# Altium footprint library pre_INDUCTOR.PcbLib: 9 footprints
Each footprint in its own frame and in the unit in brackets; x right, y up, seen from the top. Pads: shape width x height; smd on the part's side, far side on the other; paste and mask are expansions set on the pad; w line width, h text height; cw(c..) or ccw(c..) is an arc to the next point about the centre after c.
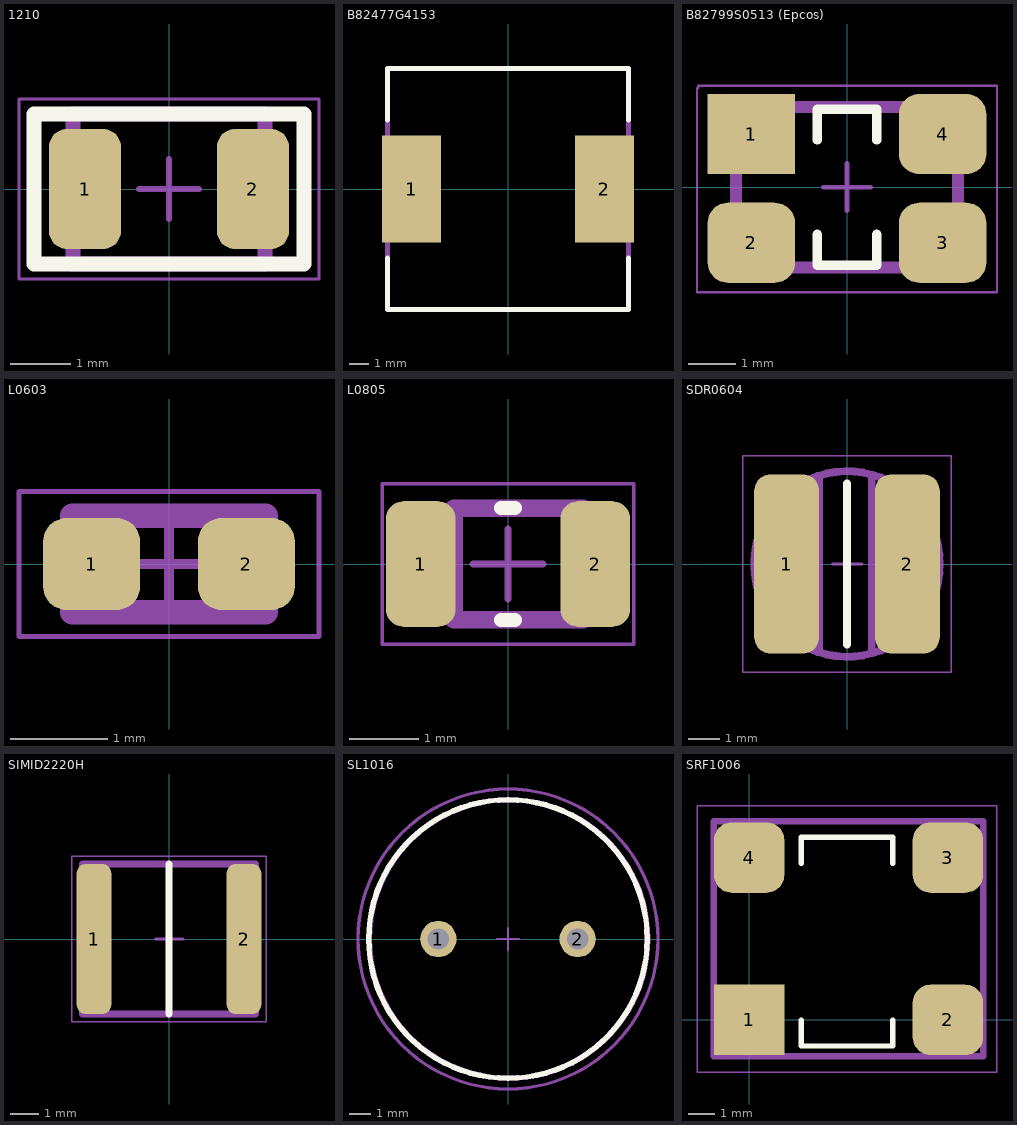
[diagram p0: the footprints below, top view; thin cyan lines are the x and y axes]

## 1210 [mm]
pads (2):
  rrect50% 1.2x2 smd: 1(-1.4,0) 2(1.4,0)
Top Overlay:
  lines w0.254: -2.25,-1.25 2.25,-1.25 2.25,1.25 -2.25,1.25 -2.25,-1.25
Top Assy:
  lines w0.254: -1.6,-1.25 1.6,-1.25 1.6,1.25 -1.6,1.25 -1.6,-1.25
Mechanical 13:
  lines w0.1: -1.6,-1.25 1.6,-1.25 1.6,1.25 -1.6,1.25 -1.6,-1.25
Mechanical 15:
  lines w0.05: -2.5,-1.5 2.5,-1.5 2.5,1.5 1.663,1.5 -1.512,1.5 -2.375,1.5 -2.5,1.5 -2.5,-1.5
  lines w0.1: -0.5,0 0.5,0 ; 0,-0.5 0,0.5
3D body: height 2.1, standoff 0, extent -1.6,-1.237 1.6,1.238

## B82477G4153 [mm]
pads (2):
  rect 3.1x5.6 smd: 1(-5.05,0) 2(5.05,0)
Top Overlay:
  lines w0.254: -6.3,-3.6 -6.3,-6.3 6.3,-6.3 6.3,-3.6 ; -6.3,3.6 -6.3,6.3 6.3,6.3 6.3,3.6
Top Assy:
  lines w0.254: -6.3,-6.3 -6.3,6.3 6.3,6.3 6.3,-6.3 -6.3,-6.3

## B82799S0513 (Epcos) [mm] "Inductor, 4-Leads"
height 3.2
pads (4):
  rect 1.85x1.7 smd: 1(-2.025,1.125)
  rrect50% 1.85x1.7 smd: 2(-2.025,-1.175) 3(2.025,-1.175) 4(2.025,1.125)
Top Overlay:
  lines w0.2: -0.625,-1 -0.625,-1.65 0.625,-1.65 0.625,-1 ; -0.625,1 -0.625,1.65 0.625,1.65 0.625,1
Top Assy:
  lines w0.254: -2.35,-1.7 2.35,-1.7 2.35,1.7 -2.35,1.7 -2.35,-1.7
Mechanical 13:
  lines w0.1: -2.35,-1.7 2.35,-1.7 2.35,1.7 -2.35,1.7 -2.35,-1.7
Mechanical 15:
  lines w0.05: -3.175,-2.225 3.175,-2.225 3.175,2.15 1.613,2.15 -1.562,2.15 -3.15,2.15 -3.15,2.1 -3.175,2.1 -3.175,-2.225
  lines w0.1: -0.5,0 0.5,0 ; 0,-0.5 0,0.5
3D body: height 3.2, standoff 0, extent -2.35,-1.65 2.35,1.75

## L0603 [mm] "Chip Inductor, 2-Leads, Body 1,60x0,80mm, IPC Medium Density"
height 0.87
pads (2):
  rrect50% 1x0.95 smd: 1(-0.8,0) 2(0.8,0)
Top Assy:
  lines w0.254: -1,-0.5 -1,0.5 1,0.5 1,-0.5 -1,-0.5
Mechanical 13:
  lines w0.1: -0.875,-0.475 0.875,-0.475 0.875,0.475 -0.875,0.475 -0.875,-0.475
Mechanical 15:
  lines w0.05: -1.55,-0.75 1.55,-0.75 1.55,0.75 -1.55,0.75 -1.55,-0.75
  lines w0.1: -0.475,0 0.475,0 ; 0,-0.475 0,0.475
3D body: height 0.87, standoff 0, extent 0.525,-0.475 0.875,0.475
3D body: height 0.87, standoff 0, extent -0.875,-0.475 -0.525,0.475
3D body: height 0.87, standoff 0, extent -0.525,-0.475 0.525,0.475

## L0805 [mm] "BF-SB201209 2.0x1.25x0.90"
height 1.1
pads (2):
  rrect50% 1x1.8 smd: 1(-1.25,0) 2(1.25,0)
Top Overlay:
  lines w0.2: -0.1,-0.8 0.1,-0.8 ; -0.1,0.8 0.1,0.8
Top Assy:
  lines w0.254: -0.775,-0.8 -0.775,0.8 1.075,0.8 1.075,-0.8 -0.775,-0.8
Mechanical 13:
  lines w0.1: -1.1,-0.725 -1.1,0.725 1.1,0.725 1.1,-0.725 -1.1,-0.725
Mechanical 15:
  lines w0.05: -1.8,-1.15 -1.8,1.15 1.8,1.15 1.8,-1.15 -1.8,-1.15
  lines w0.1: -0.5,0 0.5,0 ; 0,-0.5 0,0.5
3D body: height 1.1, standoff 0, extent 0.6,-0.725 1.1,0.725
3D body: height 1.1, standoff 0, extent -1.1,-0.725 -0.6,0.725
3D body: height 1.1, standoff 0, extent -0.6,-0.725 0.6,0.725

## SDR0604 [mm]
height 4.8
pads (2):
  rrect50% 2.1x5.8 smd: 1(-1.95,0) 2(1.95,0)
Top Overlay:
  lines w0.254: 0,-2.6 0,2.6
Top Assy:
  circle w0.254: c0,0 r3
  lines w0.254: -0.9,-2.8 -0.9,2.8 ; 0.8,-2.8 0.8,2.8
Mechanical 13:
  circle w0.1: c0.012,0 r3.019
Mechanical 15:
  lines w0.05: -3.375,-3.5 -3.375,3.5 3.375,3.5 3.375,-3.5 -3.375,-3.5
  lines w0.1: -0.462,0 0.488,0 ; 0.013,-0.475 0.013,0.475
3D body: height 5, standoff 0, extent -3,-3 3.031,3

## SIMID2220H [mm]
height 5
pads (2):
  rrect50% 1.2x5.2 smd: 1(-2.6,0) 2(2.6,0)
Top Overlay:
  lines w0.254: 0,-2.6 0,2.6
Top Assy:
  lines w0.254: -3,-2.6 3,-2.6 3,2.6 -3,2.6 -3,-2.6
Mechanical 13:
  lines w0.1: -3,-2.6 -3,2.6 3.025,2.6 3.025,-2.6 -3,-2.6
Mechanical 15:
  lines w0.05: -3.375,-2.875 3.375,-2.875 3.375,2.875 -3.375,2.875 -3.375,-2.875
  lines w0.1: -0.462,0 0.488,0 ; 0.013,-0.475 0.013,0.475
3D body: height 5, standoff 0, extent -3,-2.6 3.025,2.6

## SL1016 [mm]
height 18
pads (2):
  round 1.7 hole 1: 1(-3.25,0) 2(3.25,0)
Top Overlay:
  circle w0.254: c0,0 r6.5
Top Assy:
  circle w0.254: c0.025,0 r6.5
Mechanical 13:
  circle w0.15: c0,0 r6.5
Mechanical 15:
  circle w0.15: c0,0 r7
  lines w0.1: -0.5,0 0.5,0 ; 0,-0.5 0,0.5
3D body: height 18, standoff 0, extent -6.487,-6.45 6.513,6.55

## SRF1006 [mm] "Inductor, 4-Leads"
height 6.5
pads (4):
  rect 2.7x2.7 smd: 1(0,0)
  rrect50% 2.7x2.7 smd: 2(7.62,0) 3(7.62,6.22) 4(0,6.22)
Top Overlay:
  lines w0.2: 2,0 2,-1 5.5,-1 5.5,0 ; 2,6 2,7 5.5,7 5.5,6
Top Assy:
  lines w0.254: -1.36,-1.39 -1.36,7.61 8.98,7.61 8.98,-1.39 -1.36,-1.39
Mechanical 13:
  lines w0.1: -1.36,-1.39 -1.36,7.61 8.98,7.61 8.98,-1.39 -1.36,-1.39
Mechanical 15:
  lines w0.05: -2,-2 -2,8.2 9.5,8.2 9.5,-2 -2,-2
  lines w0.1: -0.5,0 0.5,0 ; 0,-0.5 0,0.5
3D body: height 6.5, standoff 0, extent -1.36,-1.39 8.98,7.6